# Altium schematic symbol library LMR51430YDDCR.SchLib: 1 symbol
Pins are listed as number, name and electrical type; pins without a type are passive.

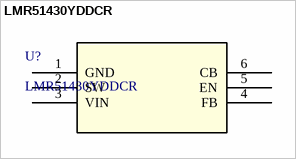
[diagram p0: symbol LMR51430YDDCR]

## LMR51430YDDCR
designator U?
SIMPLE SWITCHER&reg; 4.5-V to 36-V, 3-A synchronous buck converter with 40-&micro;A IQ 6-SOT-23-THIN -40 to 150; Manufacturer_Name: Texas Instruments; Copyright: Copyright (C) 2025 Ultra Librarian. All rights reserved.; Manufacturer_Part_Number: LMR51430YDDCR; RefDes: RefDes; Type: Type
footprint SOT-23-THIN-6_DDC_TEX
pins: 1 GND (power), 2 SW (power), 3 VIN (power), 4 FB, 5 EN, 6 CB (power)